# Altium footprint library CAMERON.PcbLib: 58 footprints (part 2 of 4)
Each footprint in its own frame and in the unit in brackets; x right, y up, seen from the top. Pads: shape width x height; smd on the part's side, far side on the other; paste and mask are expansions set on the pad; w line width, h text height; cw(c..) or ccw(c..) is an arc to the next point about the centre after c.
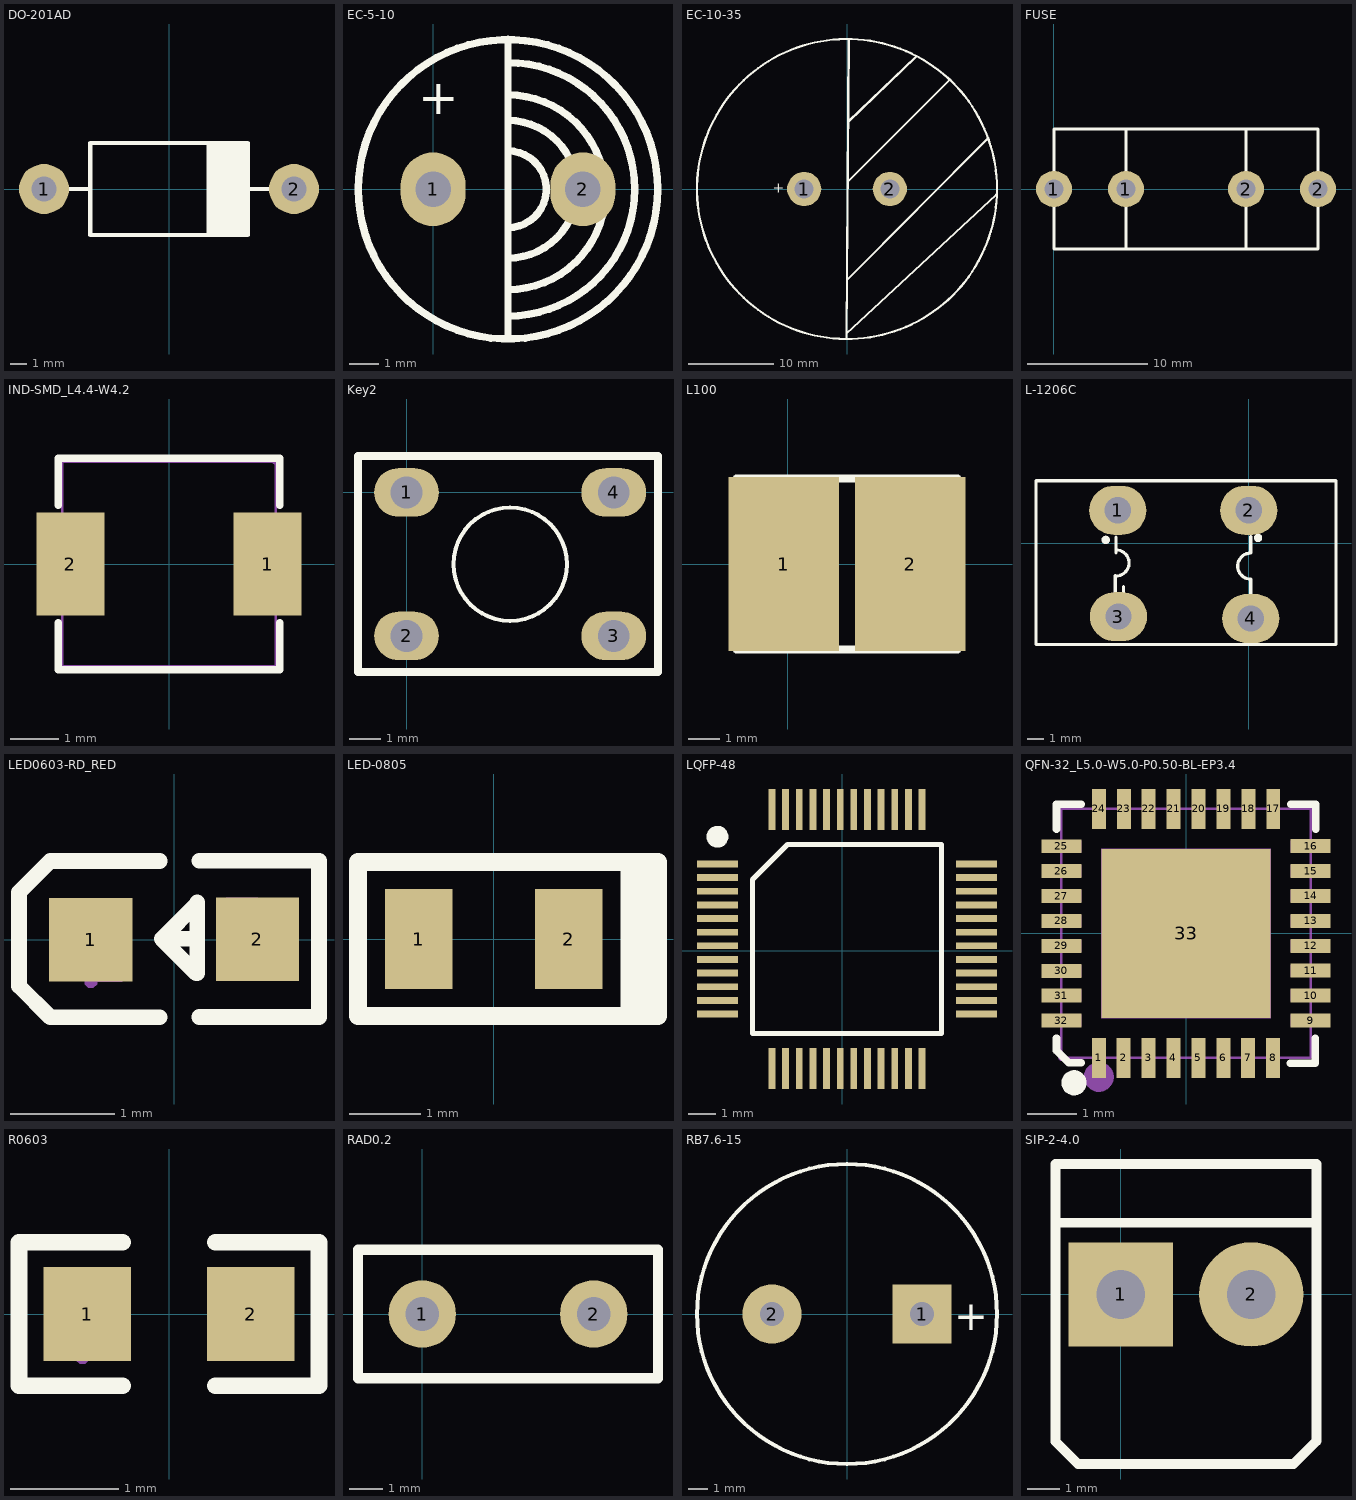
[diagram p1: the footprints below, top view; thin cyan lines are the x and y axes]

## DO-201AD [mil]
height 80
pads (2):
  round 120 hole 59.06: 1(-300,0) 2(300,0)
Top Overlay:
  lines w10: -240.16,0 -188.98,0 ; 94.49,-110.24 94.49,110.24 ; 102.36,-110.24 102.36,110.24 ; 110.24,-110.24 110.24,110.24 ; 118.11,-110.24 118.11,110.24 ; 125.98,-110.24 125.98,110.24 ; 133.86,-110.24 133.86,110.24 ; 141.73,-110.24 141.73,110.24 ; 149.61,-110.24 149.61,110.24 ; 157.48,-110.24 157.48,110.24 ; 165.35,-110.24 165.35,110.24 ; 173.23,-110.24 173.23,110.24 ; 181.1,-110.24 181.1,110.24 ; 188.98,0 240.16,0 ; -188.98,-110.24 -188.98,110.24 188.98,110.24 188.98,-110.24 -188.98,-110.24

## EC-5-10 [mm]
pads (2):
  oval 2.2x2.5 hole 1.2: 1(0,0) 2(5.08,0)
Top Overlay:
  circle w0.254: c2.54,0 r5.08
  lines w0.254: 2.54,-5 2.54,5.1 ; 2.54,-4.3 ccw(c2.54,0) 2.54,4.3 ; 2.54,-3.4 ccw(c2.54,-0.1) 2.54,3.2 ; 2.54,-2.335 ccw(c2.54,0) 2.54,2.335 ; 2.54,-1.3 ccw(c2.54,0) 2.54,1.3
  text "+" at -0.508,2.54 h1.2

## EC-10-35 [mm]
pads (2):
  round 4 hole 2.2: 1(-5,0) 2(5,0)
Top Overlay:
  circle w0.254: c0,0 r17.5
  lines w0.254: -0.072,-17.45 0.203,17.475 ; -0.07,-16.89 17.402,-0.675 ; 0.031,-10.571 16.485,5.944 ; 0.072,0.737 0.072,0.834 11.989,12.751 12.04,12.751 ; 0.173,7.878 8.026,15.392
  text "+" at -8.636,-0.432 h1.2

## FUSE [mm]
pads (4):
  round 3 hole 1.6: 1(0,0) 1(6,0) 2(16,0) 2(22,0)
Top Overlay:
  lines w0.254: 6,-5 6,5 ; 16,-5 16,5 ; 0,-5 22,-5 22,5 0,5 0,-5

## IND-SMD_L4.4-W4.2 [mm]
pads (2):
  rect 1.4x2.12 smd: 1(2.028,0) 2(-2.028,0)
Top Overlay:
  lines w0.152: -2.276,-1.212 -2.276,-2.176 2.276,-2.176 2.276,-1.212 ; -2.276,1.212 -2.276,2.176 2.276,2.176 2.276,1.212
Mechanical 15:
  region: -2.2,1 -1.4,1 -1.4,-1 -2.2,-1
  region: 1.4,1 2.2,1 2.2,-1 1.4,-1
  region: 2.26,2.1 2.259,2.124 2.224,2.158 2.176,2.158 2.141,2.124 2.14,2.1 2.141,2.076 2.176,2.042 2.224,2.042 2.259,2.076 2.26,2.1
  lines w0.051: -2.2,-2.1 2.2,-2.1 2.2,2.1 -2.2,2.1 -2.2,-2.1

## Key2 [mm]
pads (4):
  oval 2.032x1.524 hole 1: 1(0,0) 2(0,-4.5) 3(6.5,-4.5) 4(6.5,0)
Top Overlay:
  circle w0.127: c3.25,-2.25 r1.778
  lines w0.254: 7.89,1.092 7.89,-5.63 -1.524,-5.63 -1.524,1.14 7.89,1.14

## L100 [mm]
pads (2):
  rect 3.5x5.5 smd paste+0: 1(-0.127,0)
  rect 3.5x5.5 smd: 2(3.873,0)
Top Overlay:
  lines w0.254: -1.627,-2.7 5.373,-2.7 5.373,2.7 -1.627,2.7 -1.627,-2.7

## L-1206C [mm]
pads (4):
  oval 3.5x3 hole 1.6: 1(-8,2) 2(0,2) 3(-7.96,-4.498) 4(0.127,-4.609)
Top Overlay:
  circle w0.254: c-8.739,0.193 r0.127
  circle w0.254: c0.571,0.312 r0.127
  lines w0.2: -13,-6.2 -13,3.8 ; -8.159,-4 -8.159,-2 ; -8.114,-2.017 ccw(c-8.114,-1.217) -8.114,-0.417 ; -8.114,-0.609 -8.114,0.351 ; -7.655,-3.067 -7.655,-2.667 ; 0.127,-4.209 0.127,-2.209 cw(c0.127,-1.409) 0.127,-0.609 0.127,0.391 ; 0.142,-5.885 0.142,-5.485 ; 5.334,-6.2 5.334,3.8
  lines w0.203: -13,-6.2 5.334,-6.2 ; -13,3.8 5.334,3.8

## LED0603-RD_RED [mm]
pads (2):
  rect 0.8x0.8 smd: 1(-0.8,-0.003) 2(0.8,0.003)
Top Overlay:
  lines w0.15: -0.14,-0.746 -1.19,-0.746 -1.49,-0.446 -1.49,-0.346 -1.49,0.354 -1.49,0.454 -1.19,0.754 -0.14,0.754 ; 0.22,0.007 -0.12,0.007 ; 0.24,-0.744 1.39,-0.744 ; 0.24,0.757 1.39,0.757 1.39,-0.723 ; -0.12,0.007 0.22,0.347 0.22,0.357 0.22,-0.323 0.21,-0.323 -0.12,0.007
Mechanical 6:
  region: -1.07,0.062 -0.53,0.062 -0.53,-0.068 -1.07,-0.068
  region: 0.735,-0.267 0.735,0.273 0.865,0.273 0.865,-0.267
  region: 0.529,0.068 1.069,0.068 1.069,-0.062 0.529,-0.062
Mechanical 15:
  region: -0.8,-0.403 -0.8,0.397 -0.5,0.397 -0.5,-0.403
  region: 0.5,-0.396 0.5,0.404 0.8,0.404 0.8,-0.396
  region: -0.74,-0.403 -0.741,-0.379 -0.775,-0.346 -0.824,-0.346 -0.858,-0.379 -0.859,-0.403 -0.858,-0.428 -0.824,-0.461 -0.775,-0.461 -0.741,-0.428 -0.74,-0.403

## LED-0805 [mm]
height 0.8
pads (2):
  rect 0.95x1.4 smd: 1(-1.05,0) 2(1.05,0)
Top Overlay:
  lines w0.254: 1.9,-1.08 1.9,1.08 ; 2.1,-1.08 2.1,1.08 ; -1.9,-1.08 -1.9,1.08 2.3,1.08 2.3,-1.08 -1.9,-1.08

## LQFP-48 [mm]
pads (48):
  rect 1.5x0.25 smd: 1(-4.568,3.175) 2(-4.568,2.675) 3(-4.568,2.175) 4(-4.568,1.675) 5(-4.568,1.175) 6(-4.568,0.675) 7(-4.568,0.175) 8(-4.568,-0.325) 9(-4.568,-0.825) 10(-4.568,-1.325) 11(-4.568,-1.825) 12(-4.568,-2.325) 25(4.932,-2.325) 26(4.932,-1.825) 27(4.932,-1.325) 28(4.932,-0.825) 29(4.932,-0.325) 30(4.932,0.175) 31(4.932,0.675) 32(4.932,1.175) 33(4.932,1.675) 34(4.932,2.175) 35(4.932,2.675) 36(4.932,3.175)
  rect 0.25x1.5 smd: 13(-2.568,-4.325) 14(-2.068,-4.325) 15(-1.568,-4.325) 16(-1.068,-4.325) 17(-0.568,-4.325) 18(-0.068,-4.325) 19(0.432,-4.325) 20(0.932,-4.325) 21(1.432,-4.325) 22(1.932,-4.325) 23(2.432,-4.325) 24(2.932,-4.325) 37(2.932,5.175) 38(2.432,5.175) 39(1.932,5.175) 40(1.432,5.175) 41(0.932,5.175) 42(0.432,5.175) 43(-0.068,5.175) 44(-0.568,5.175) 45(-1.068,5.175) 46(-1.568,5.175) 47(-2.068,5.175) 48(-2.568,5.175)
Top Overlay:
  circle w0.4: c-4.568,4.175 r0.2
  lines w0.2: -3.283,-3.04 -3.283,2.605 -1.998,3.89 3.647,3.89 3.647,-3.04 -3.283,-3.04

## QFN-32_L5.0-W5.0-P0.50-BL-EP3.4 [mm]
pads (33):
  rect 0.28x0.8 smd paste-100 mask+0.05: 1(-1.75,-2.5) 2(-1.251,-2.5) 3(-0.751,-2.5) 4(-0.251,-2.5) 5(0.249,-2.5) 6(0.749,-2.5) 7(1.249,-2.5) 8(1.749,-2.5) 17(1.752,2.5) 18(1.251,2.5) 19(0.752,2.5) 20(0.251,2.5) 21(-0.248,2.5) 22(-0.749,2.5) 23(-1.248,2.5) 24(-1.749,2.5)
  rect 0.8x0.28 smd paste-100 mask+0.05: 9(2.5,-1.748) 10(2.5,-1.248) 11(2.5,-0.748) 12(2.5,-0.248) 13(2.5,0.252) 14(2.5,0.752) 15(2.5,1.252) 16(2.5,1.752) 25(-2.5,1.75) 26(-2.5,1.25) 27(-2.5,0.75) 28(-2.5,0.25) 29(-2.5,-0.25) 30(-2.5,-0.75) 31(-2.5,-1.25) 32(-2.5,-1.75)
  rect 3.4x3.4 smd paste-100 mask+0.05: 33(0,0)
Top Overlay:
  circle w0.254: c-2.248,-2.998 r0.125
  lines w0.152: -2.6,-2.1 -2.6,-2.35 -2.35,-2.6 -2.1,-2.6 ; -2.599,2.097 -2.599,2.597 -2.099,2.597 ; 2.098,-2.602 2.598,-2.602 2.598,-2.103 ; 2.103,2.597 2.602,2.597 2.602,2.097
Top Paste:
  drawing of 33 lines, arcs and shapes, not listed
Mechanical 6:
  circle w0.3: c-1.75,-2.88 r0.15
Mechanical 15:
  drawing of 38 lines, arcs and shapes, not listed

## R0603 [mm]
pads (2):
  rect 0.806x0.864 smd paste-100 mask+0.051: 1(-0.753,0) 2(0.753,0)
Top Overlay:
  lines w0.152: -0.426,-0.661 -1.385,-0.661 -1.385,0.661 -0.426,0.661 ; 0.426,-0.661 1.385,-0.661 1.385,0.661 0.426,0.661
Top Paste:
  region: 1.195,0.45 0.395,0.45 0.345,0.4 0.345,0.172 0.715,0.172 0.715,-0.158 0.345,-0.158 0.345,-0.4 0.395,-0.45 1.195,-0.45 1.245,-0.4 1.245,0.4
  region: -1.195,-0.45 -0.395,-0.45 -0.345,-0.4 -0.345,-0.172 -0.715,-0.172 -0.715,0.158 -0.345,0.158 -0.345,0.4 -0.395,0.45 -1.195,0.45 -1.245,0.4 -1.245,-0.4
Mechanical 15:
  region: -0.74,-0.4 -0.74,-0.375 -0.775,-0.34 -0.825,-0.34 -0.86,-0.375 -0.86,-0.4 -0.86,-0.425 -0.825,-0.46 -0.775,-0.46 -0.74,-0.425 -0.74,-0.4
  region: -0.8,-0.4 -0.8,0.4 -0.5,0.4 -0.5,-0.4
  region: 0.8,-0.4 0.8,0.4 0.5,0.4 0.5,-0.4
  lines w0.051: -0.8,-0.4 -0.8,0.4 ; 0.8,-0.4 0.8,0.4

## RAD0.2 [mm]
pads (2):
  round 2 hole 1: 1(0,0) 2(5.08,0)
Top Overlay:
  lines w0.305: -1.905,-1.905 -1.905,1.905 6.985,1.905 6.985,-1.905 -1.905,-1.905

## RB7.6-15 [mm]
pads (2):
  rect 3x3 hole 1.2: 1(3.81,0)
  round 3 hole 1.2: 2(-3.81,0)
Top Overlay:
  circle w0.2: c0,0 r7.62
  text "+" at 5.436,-0.813 h1.5

## SIP-2-4.0 [mm]
pads (2):
  rect 3.2x3.2 hole 1.5: 1(0,0)
  round 3.2 hole 1.5: 2(4,0)
Top Overlay:
  lines w0.3: -2,2.2 6,2.2 ; -2,-4.51 -2,-4.5 -2,4 6,4 6,-4.5 5.3,-5.2 4.3,-5.2 -0.3,-5.2 -1.31,-5.2 -2,-4.51